# EAGLE library part CHARGER (library unicorn)
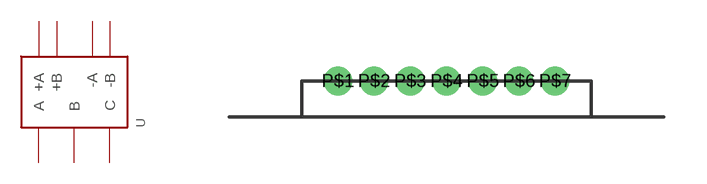
[diagram p3: symbol with the pads of SYSTEM-7; footprint SYSTEM-7]

Designator prefix -

## CHARGER  [SYSTEM-7]
P$1  +A  pwr
P$2  +B  pwr
P$3  -A  pwr
P$4  -B  pwr
P$5  A  pwr
P$6  B  pwr
P$7  C  pwr

## Footprint SYSTEM-7 (pad centres in mm)
drill 0.5 round: P$1 -3.81,0; P$2 -2.54,0; P$3 -1.27,0; P$4 0,0; P$5 1.27,0; P$6 2.54,0; P$7 3.81,0